# EAGLE library part UCC5310 (library AC_Motor_Control)
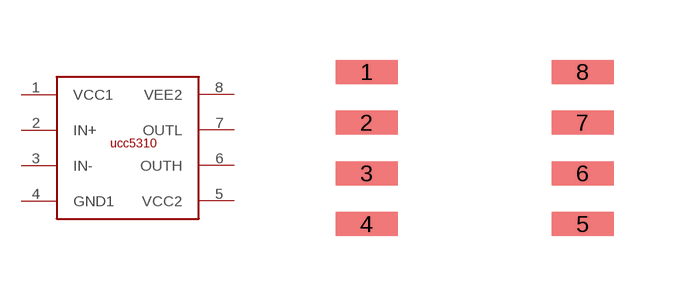
[diagram p2: symbol with the pads of 8PIN-SOIC; footprint 8PIN-SOIC]

Designator prefix -

## UCC5310  [8PIN-SOIC]
1  VCC1
2  IN+
3  IN-
4  GND1
5  VCC2
6  OUTH
7  OUTL
8  VEE2

## Footprint 8PIN-SOIC (pad centres in mm)
smd 1.55 x 0.6: 1 0,3.81; 2 0,2.54; 3 0,1.27; 4 0,0; 5 5.4,0; 6 5.4,1.27; 7 5.4,2.54; 8 5.4,3.81